# EAGLE library part 74*138 (library kmod-ics)
3-to-8 decoder/demultiplexer; inverting Such as http://www.nxp.com/documents/data_sheet/74HC_HCT138.pdf
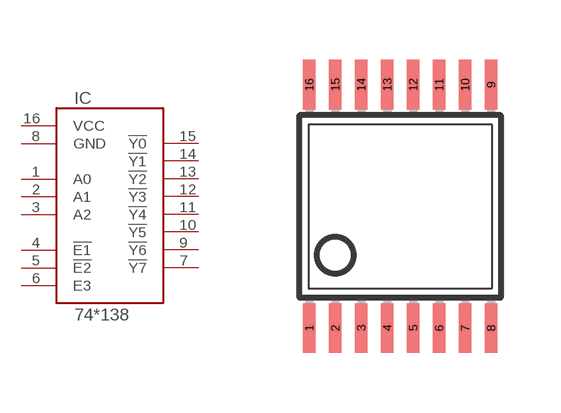
[diagram p15: symbol with the pads of TSSOP16; footprint TSSOP16]

Designator prefix IC

## 74138  [TSSOP16]
1  A0
2  A1
3  A2
4  !E1
5  !E2
6  E3
7  !Y7
8  GND
9  !Y6
10  !Y5
11  !Y4
12  !Y3
13  !Y2
14  !Y1
15  !Y0
16  VCC

## Footprint TSSOP16 (pad centres in mm)
Thin Shrink Small Outline Plastic 16, 4.40mm width Forget where I copied it from. Same thoughts as the TSSOP-14: works well but maybe could lengthen the pads. - ok made them longer by 10mil (0.25mm); they now stick past the end by about 0.5mm
smd 0.305 x 1.245: 1 -2.275,-3.045; 2 -1.625,-3.045; 3 -0.975,-3.045; 4 -0.325,-3.045; 5 0.325,-3.045; 6 0.975,-3.045; 7 1.625,-3.045; 8 2.275,-3.045; 9 2.275,3.045; 10 1.625,3.045; 11 0.975,3.045; 12 0.325,3.045; 13 -0.325,3.045; 14 -0.975,3.045; 15 -1.625,3.045; 16 -2.275,3.045